# Altium footprint library DRV8301.PcbLib: 4 footprints
Each footprint in its own frame and in the unit in brackets; x right, y up, seen from the top. Pads: shape width x height; smd on the part's side, far side on the other; paste and mask are expansions set on the pad; w line width, h text height; cw(c..) or ccw(c..) is an arc to the next point about the centre after c.
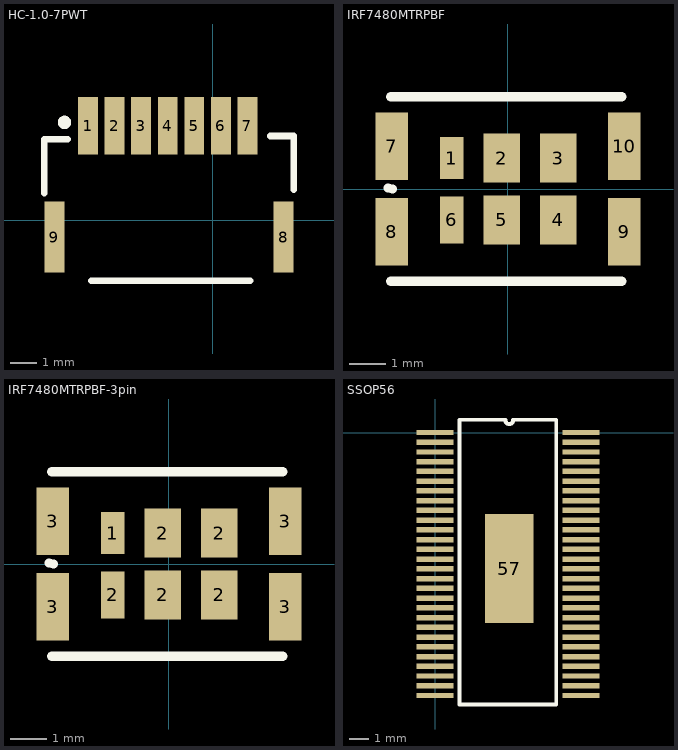
[diagram p0: the footprints below, top view; thin cyan lines are the x and y axes]

## HC-1.0-7PWT [mil]
pads (9):
  rect 29.53x85 smd: 1(-185,140) 2(-145.63,140) 3(-106.26,140) 4(-66.89,140) 5(-27.52,140) 6(11.85,140) 7(51.22,140)
  rect 29.53x105 smd: 8(105,-25) 9(-235,-25)
Top Overlay:
  circle w10: c-220,145 r5
  lines w9.84: -250,40 -250,118.74 ; 120,45 120,123.74
  lines w10: -250,120 -215,120 ; -180,-90 55,-90 ; 85,125 120,125

## IRF7480MTRPBF [mm] "场效应管"
pads (10):
  rect 0.65x1.15 smd: 1(-1.55,0.85)
  rect 1x1.35 smd: 2(-0.17,0.85) 3(1.38,0.85) 4(1.38,-0.85) 5(-0.17,-0.85)
  rect 0.65x1.3 smd: 6(-1.55,-0.85)
  rect 0.9x1.85 smd: 7(-3.2,1.175) 8(-3.2,-1.175) 9(3.2,-1.175) 10(3.2,1.175)
Top Overlay:
  lines w0.254: -3.302,0.025 -3.175,0 ; -3.223,-2.54 3.127,-2.54 ; -3.223,2.54 3.127,2.54

## IRF7480MTRPBF-3pin [mm] "场效应管"
height 5
pads (10):
  rect 0.65x1.15 smd: 1(-1.55,0.85)
  rect 0.65x1.3 smd: 2(-1.55,-0.85)
  rect 1x1.35 smd: 2(-0.17,-0.85) 2(-0.17,0.85) 2(1.38,-0.85) 2(1.38,0.85)
  rect 0.9x1.85 smd: 3(-3.2,-1.175) 3(-3.2,1.175) 3(3.2,-1.175) 3(3.2,1.175)
Top Overlay:
  lines w0.254: -3.302,0.025 -3.175,0 ; -3.223,-2.54 3.127,-2.54 ; -3.223,2.54 3.127,2.54

## SSOP56 [mm] "DRV8301"
pads (57):
  rect 1.9x0.28 smd: 1(0,0) 2(0,-0.5) 3(0,-1) 4(0,-1.5) 5(0,-2) 6(0,-2.5) 7(0,-3) 8(0,-3.5) 9(0,-4) 10(0,-4.5) 11(0,-5) 12(0,-5.5) 13(0,-6) 14(0,-6.5) 15(0,-7) 16(0,-7.5) 17(0,-8) 18(0,-8.5) 19(0,-9) 20(0,-9.5) 21(0,-10) 22(0,-10.5) 23(0,-11) 24(0,-11.5) 25(0,-12) 26(0,-12.5) 27(0,-13) 28(0,-13.5) 29(7.493,-13.5) 30(7.493,-13) 31(7.493,-12.5) 32(7.493,-12) 33(7.493,-11.5) 34(7.493,-11) 35(7.493,-10.5) 36(7.493,-10) 37(7.493,-9.5) 38(7.493,-9) 39(7.493,-8.5) 40(7.493,-8) 41(7.493,-7.5) 42(7.493,-7) 43(7.493,-6.5) 44(7.493,-6) 45(7.493,-5.5) 46(7.493,-5) 47(7.493,-4.5) 48(7.493,-4) 49(7.493,-3.5) 50(7.493,-3) 51(7.493,-2.5) 52(7.493,-2) 53(7.493,-1.5) 54(7.493,-1) 55(7.493,-0.5) 56(7.493,0)
  rect 2.5x5.6 smd: 57(3.81,-6.985)
Top Overlay:
  lines w0.2: 3.556,0.654 1.254,0.654 1.254,-13.97 2.75,-13.97 5.235,-13.97 6.223,-13.97 6.223,0.654 4.064,0.654 ; 3.61,0.635 ccw(c3.81,0.635) 4.01,0.635